# Altium footprint library FootprintLib.PcbLib: 19 footprints (part 1 of 2)
Each footprint in its own frame and in the unit in brackets; x right, y up, seen from the top. Pads: shape width x height; smd on the part's side, far side on the other; paste and mask are expansions set on the pad; w line width, h text height; cw(c..) or ccw(c..) is an arc to the next point about the centre after c.
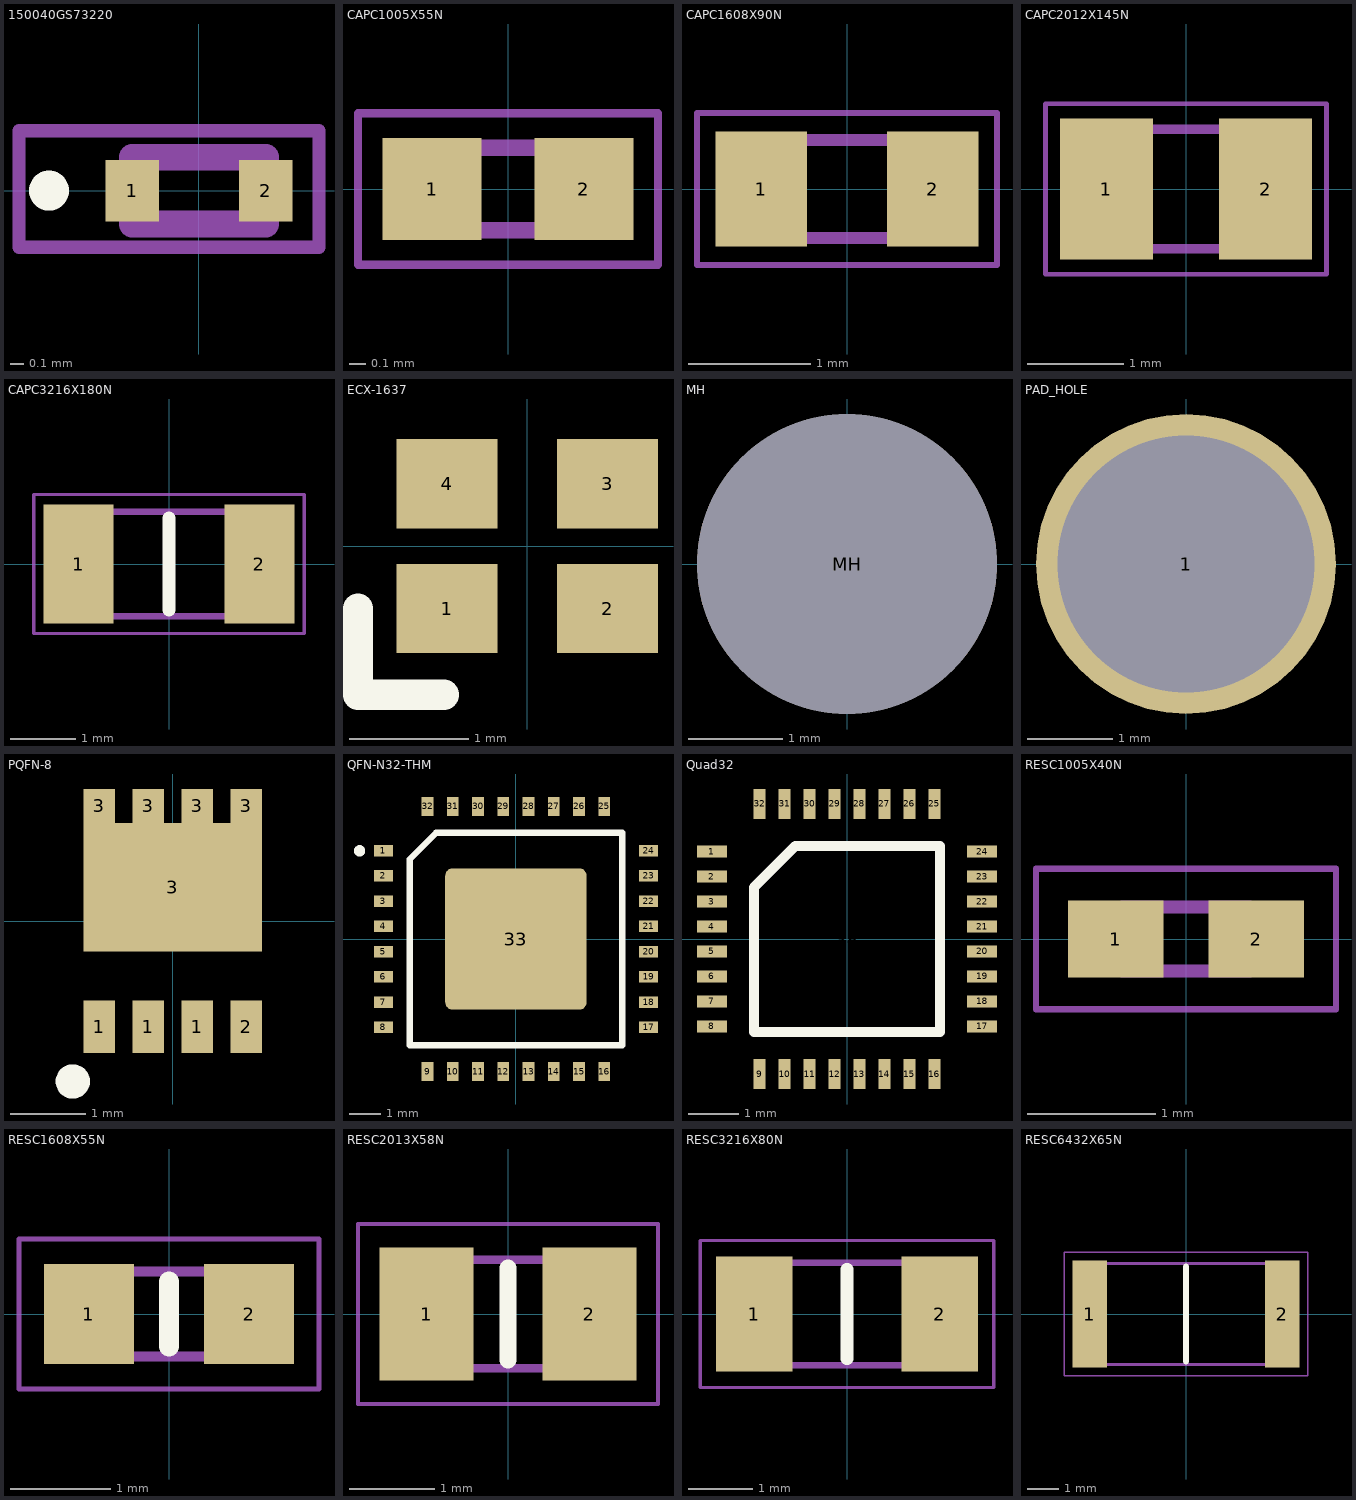
[diagram p0: the footprints below, top view; thin cyan lines are the x and y axes]

## 150040GS73220 [mm]
pads (2):
  rect 0.4x0.46 smd: 1(-0.5,0) 2(0.5,0)
Top Overlay:
  lines w0.2: -1.175,0 cw(c-1.125,0) -1.075,0 ; -1.175,0 ccw(c-1.125,0) -1.075,0 ; -1.175,0 cw(c-1.125,0) -1.075,0
Mechanical 13:
  lines w0.2: -0.5,-0.25 0.5,-0.25 0.5,0.25 -0.5,0.25 -0.5,-0.25
Mechanical 15:
  lines w0.1: -1.35,-0.425 0.9,-0.425 0.9,0.45 -1.35,0.45 -1.35,-0.425
3D body "150040GS73220.stp": height 0.45, standoff 0, extent -0.5,-0.25 0.5,0.25

## CAPC1005X55N [mm]
pads (2):
  rect 0.6x0.62 smd: 1(-0.46,0) 2(0.46,0)
Mechanical 13:
  lines w0.1: -0.5,-0.25 0.5,-0.25 0.5,0.25 -0.5,0.25 -0.5,-0.25
Mechanical 15:
  lines w0.05: -0.91,-0.46 0.91,-0.46 0.91,0.46 -0.91,0.46 -0.91,-0.46
3D body "CL05B104KO5NNNC.stp": height 0.55, standoff 0, extent -0.5,-0.25 0.5,0.25

## CAPC1608X90N [mm]
pads (2):
  rect 0.75x0.94 smd: 1(-0.7,0) 2(0.7,0)
Mechanical 13:
  lines w0.1: -0.8,-0.4 -0.8,0.4 0.8,0.4 0.8,-0.4 -0.8,-0.4
Mechanical 15:
  lines w0.05: -1.225,-0.62 -1.225,0.62 1.225,0.62 1.225,-0.62 -1.225,-0.62
3D body "GRM188Z71C475KE21D.stp": height 0.9, standoff 0, extent -0.8,-0.4 0.8,0.4

## CAPC2012X145N [mm]
pads (2):
  rect 0.97x1.47 smd: 1(-0.83,0) 2(0.83,0)
Mechanical 13:
  lines w0.1: -1,-0.625 -1,0.625 1,0.625 1,-0.625 -1,-0.625
Mechanical 15:
  lines w0.05: -1.465,-0.89 -1.465,0.89 1.465,0.89 1.465,-0.89 -1.465,-0.89
3D body "CL21A106KBYQNNE.stp": height 1.45, standoff 0, extent -1,-0.625 1,0.625

## CAPC3216X180N [mm]
pads (2):
  rect 1.07x1.82 smd: 1(-1.38,0) 2(1.38,0)
Top Overlay:
  lines w0.2: 0,-0.7 0,0.7
Mechanical 13:
  lines w0.1: -1.6,-0.8 -1.6,0.8 1.6,0.8 1.6,-0.8 -1.6,-0.8
Mechanical 15:
  lines w0.05: -2.065,-1.06 -2.065,1.06 2.065,1.06 2.065,-1.06 -2.065,-1.06
3D body "GRT31CR61H106KE01L.stp": height 1.8, standoff 0, extent -1.6,-0.8 1.6,0.8

## ECX-1637 [mm]
pads (4):
  rect 0.85x0.75 smd: 1(-0.675,-0.525) 2(0.675,-0.525) 3(0.675,0.525) 4(-0.675,0.525)
Top Overlay:
  lines w0.254: -1.425,-0.525 -1.425,-1.25 -0.7,-1.25
3D body "ECX-1637.STEP": height 0.45, standoff 0, extent -1,-0.8 1,0.8

## MH [mm]
pads (1):
  round 3.2 hole 3.2 unplated: MH(0,0)

## PAD_HOLE [mm]
pads (1):
  round 3.5 hole 3: 1(0,0)

## PQFN-8 [mm]
pads (9):
  rect 0.42x0.7 smd mask+0.07: 1(-0.975,-1.4) 1(-0.325,-1.4) 1(0.325,-1.4) 2(0.975,-1.4)
  rect 0.42x0.45 smd mask+0.07: 3(-0.975,1.525) 3(-0.325,1.525) 3(0.325,1.525) 3(0.975,1.525)
  rect 2.37x1.7 smd mask+0.07: 3(0,0.45)
Top Overlay:
  circle w0.254: c-1.325,-2.125 r0.1
3D body "NTTFS3D7N06HLTWG.STEP": height 0.75, standoff 0, extent -1.65,-1.65 1.65,1.65

## QFN-N32-THM [mm]
pads (33):
  rect 0.6x0.37 smd mask+0.05: 1(-4.2,2.8) 2(-4.2,2) 3(-4.2,1.2) 4(-4.2,0.4) 5(-4.2,-0.4) 6(-4.2,-1.2) 7(-4.2,-2) 8(-4.2,-2.8) 17(4.2,-2.8) 18(4.2,-2) 19(4.2,-1.2) 20(4.2,-0.4) 21(4.2,0.4) 22(4.2,1.2) 23(4.2,2) 24(4.2,2.8)
  rect 0.37x0.6 smd mask+0.05: 9(-2.8,-4.2) 10(-2,-4.2) 11(-1.2,-4.2) 12(-0.4,-4.2) 13(0.4,-4.2) 14(1.2,-4.2) 15(2,-4.2) 16(2.8,-4.2) 25(2.8,4.2) 26(2,4.2) 27(1.2,4.2) 28(0.4,4.2) 29(-0.4,4.2) 30(-1.2,4.2) 31(-2,4.2) 32(-2.8,4.2)
  rrect10% 4.48x4.48 smd mask+0.05: 33(0,0)
Top Overlay:
  circle w0.254: c-4.953,2.794 r0.051
  lines w0.2: -3.365,-3.365 3.365,-3.365 3.365,3.365 -2.53,3.365 -3.365,2.53 -3.365,-3.365
3D body "asm AS5247U.STEP": height 1.32, standoff 0.01, extent -4.505,-4.505 4.505,4.505

## Quad32 [mm]
pads (33):
  rect 0.6x0.24 smd: 1(-2.7,1.75) 2(-2.7,1.25) 3(-2.7,0.75) 4(-2.7,0.25) 5(-2.7,-0.25) 6(-2.7,-0.75) 7(-2.7,-1.25) 8(-2.7,-1.75) 17(2.7,-1.75) 18(2.7,-1.25) 19(2.7,-0.75) 20(2.7,-0.25) 21(2.7,0.25) 22(2.7,0.75) 23(2.7,1.25) 24(2.7,1.75)
  rect 0.24x0.6 smd: 9(-1.75,-2.7) 10(-1.25,-2.7) 11(-0.75,-2.7) 12(-0.25,-2.7) 13(0.25,-2.7) 14(0.75,-2.7) 15(1.25,-2.7) 16(1.75,-2.7) 25(1.75,2.7) 26(1.25,2.7) 27(0.75,2.7) 28(0.25,2.7) 29(-0.25,2.7) 30(-0.75,2.7) 31(-1.25,2.7) 32(-1.75,2.7)
  rect 3.5x3.5 on Bottom Paste: 38(0,0)
Top Overlay:
  lines w0.2: -1.865,-1.865 -1.865,1.03 -1.03,1.865 1.865,1.865 1.865,-1.865 -1.865,-1.865

## RESC1005X40N [mm]
pads (2):
  rect 0.75x0.6 smd: 1(-0.55,0) 2(0.55,0)
Mechanical 13:
  lines w0.1: -0.5,-0.25 -0.5,0.25 0.5,0.25 0.5,-0.25 -0.5,-0.25
Mechanical 15:
  lines w0.05: -1.175,-0.55 -1.175,0.55 1.175,0.55 1.175,-0.55 -1.175,-0.55
3D body "RCS0402120RFKED.stp": height 0.4, standoff 0, extent -0.5,-0.25 0.5,0.25

## RESC1608X55N [mm]
pads (2):
  rect 0.9x1 smd: 1(-0.8,0) 2(0.8,0)
Top Overlay:
  lines w0.2: 0,-0.325 0,0.325
Mechanical 13:
  lines w0.1: -0.8,-0.425 0.8,-0.425 0.8,0.425 -0.8,0.425 -0.8,-0.425
Mechanical 15:
  lines w0.05: -1.5,-0.75 1.5,-0.75 1.5,0.75 -1.5,0.75 -1.5,-0.75
3D body "CRCW06032K20FKEAHP.stp": height 0.55, standoff 0, extent -0.8,-0.425 0.8,0.425

## RESC2013X58N [mm]
pads (2):
  rect 1.1x1.55 smd: 1(-0.95,0) 2(0.95,0)
Top Overlay:
  lines w0.2: 0,-0.535 0,0.535
Mechanical 13:
  lines w0.1: -1.015,-0.635 1.015,-0.635 1.015,0.635 -1.015,0.635 -1.015,-0.635
Mechanical 15:
  lines w0.05: -1.75,-1.05 1.75,-1.05 1.75,1.05 -1.75,1.05 -1.75,-1.05
3D body "WSLP08055L000FEA18.stp": height 0.36, standoff 0, extent -1.015,-0.635 1.015,0.635

## RESC3216X80N [mm]
pads (2):
  rect 1.2x1.8 smd: 1(-1.45,0) 2(1.45,0)
Top Overlay:
  lines w0.2: 0,-0.7 0,0.7
Mechanical 13:
  lines w0.1: -1.6,-0.8 -1.6,0.8 1.6,0.8 1.6,-0.8 -1.6,-0.8
Mechanical 15:
  lines w0.05: -2.3,-1.15 -2.3,1.15 2.3,1.15 2.3,-1.15 -2.3,-1.15
3D body "LRMAM1206-R005FT5.stp": height 0.8, standoff 0, extent -1.6,-0.8 1.6,0.8

## RESC6432X65N [mm]
pads (2):
  rect 1.1x3.4 smd: 1(-3.05,0) 2(3.05,0)
Top Overlay:
  lines w0.2: 0,-1.5 0,1.5
Mechanical 13:
  lines w0.1: -3.175,-1.6 -3.175,1.6 3.175,1.6 3.175,-1.6 -3.175,-1.6
Mechanical 15:
  lines w0.05: -3.85,-1.95 -3.85,1.95 3.85,1.95 3.85,-1.95 -3.85,-1.95
3D body "CRGCQ2512F18R.stp": height 0.65, standoff 0, extent -3.175,-1.6 3.175,1.6